# EAGLE library part AE45101H-912 (library saw-filters-narrowband)
ЦПАР.433561.101.01-05 Параметр Ед. изм. Нижняя частота Тип. значение Верхняя частота Центральная частота МГц - 912 - Минимальное вносимое затухание дБ - Не более 3 - Частота среза по уровню -2 дБ МГц Не более 901.5 - Не менее 922.5 Частота среза по уровню -28 дБ МГц Не менее 884.5 - Не более 939.5 Неравномерность АЧХ дБ - Не более 2 - Групповое время задержки нс - - - Гарантированное затухание дБ - 28 - Температурный диапазон °C -55 22 +85 Материал подложки - - Танталат лития 36 -
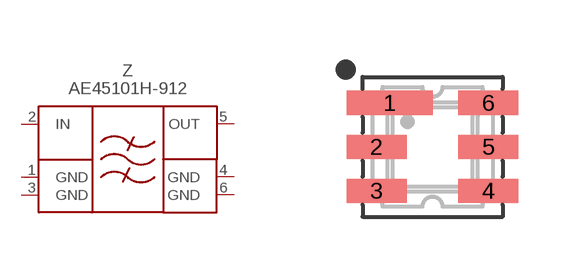
[diagram p117: symbol with the pads of DCC6; footprint DCC6]

Designator prefix Z

## AE45101H-912  [DCC6]
1  GND  pwr
2  IN  in
3  GND  pwr
4  GND  pwr
5  OUT  out
6  GND  pwr

## Footprint DCC6 (pad centres in mm)
smd 2.15 x 0.6: 1 -1.075,1.1
smd 1.5 x 0.6: 2 -1.4,0; 3 -1.4,-1.1; 4 1.4,-1.1; 5 1.4,0; 6 1.4,1.1